# EAGLE library part BMP085 (library zortness)
BMP085 Barometric Pressure and Temperature Sensor Modified LCC-8 Package http://www.digikey.com/product-detail/en/BMP085/828-1005-1-ND/1987010
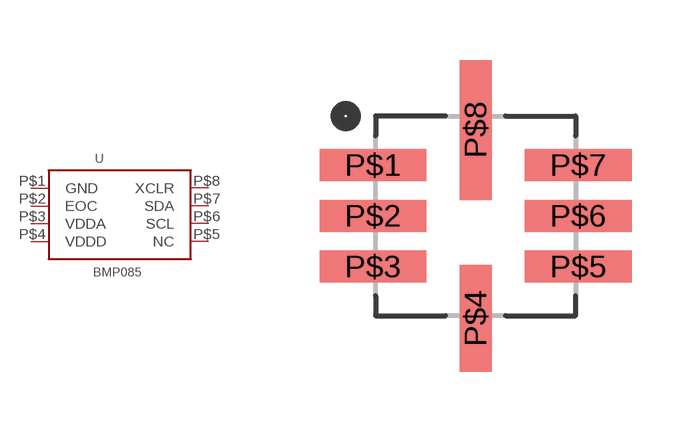
[diagram p1: symbol with the pads of BMP085; footprint BMP085]

Designator prefix U

## BMP085  [BMP085]
P$1  GND  pwr
P$2  EOC  out
P$3  VDDA  pwr
P$4  VDDD  pwr
P$5  NC  nc
P$6  SCL
P$7  SDA
P$8  XCLR  in

## Footprint BMP085 (pad centres in mm)
Modified LCC8 footprint for the BMP085 barometric pressure sensor.
smd 2.67 x 0.8: P$1 -2.565,1.27; P$2 -2.565,0; P$3 -2.565,-1.27; P$5 2.565,-1.27; P$6 2.565,0; P$7 2.565,1.27
smd 0.8 x 2.67: P$4 0,-2.565
smd 0.8 x 3.5: P$8 0,2.15